# Altium footprint library 5013310807.PcbLib: 1 footprints
Each footprint in its own frame and in the unit in brackets; x right, y up, seen from the top. Pads: shape width x height; smd on the part's side, far side on the other; paste and mask are expansions set on the pad; w line width, h text height; cw(c..) or ccw(c..) is an arc to the next point about the centre after c.
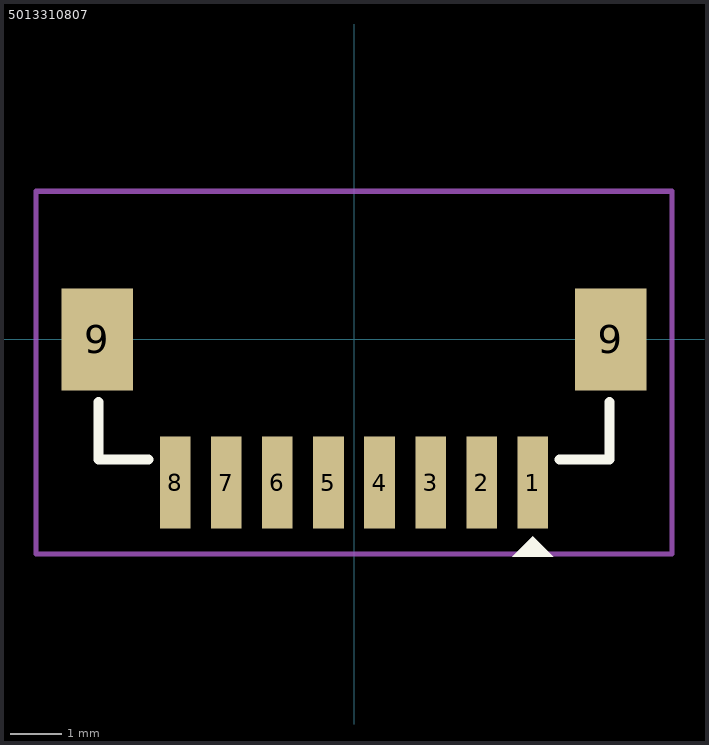
[diagram p0: the footprint, top view; thin cyan lines are the x and y axes]

## 5013310807 [mm]
pads (10):
  rect 0.6x1.8 smd: 1(3.5,-2.8) 2(2.5,-2.8) 3(1.5,-2.8) 4(0.5,-2.8) 5(-0.5,-2.8) 6(-1.5,-2.8) 7(-2.5,-2.8) 8(-3.5,-2.8)
  rect 1.4x2 smd: 9(-5.025,0) 9(5.025,0)
Top Overlay:
  region: 3.9,-4.25 3.1,-4.25 3.5,-3.85
  lines w0.2: -5,-1.225 -5,-2.35 -4.025,-2.35 ; 4.025,-2.35 5,-2.35 5,-1.225
Top Courtyard:
  lines w0.1: -6.225,-1 -6.225,-4.2 ; -6.225,-4.2 6.225,-4.2 6.225,2.9 -6.225,2.9 -6.225,-4.2
3D body "5013310807.stp": height 5.52, standoff -0.03, extent -5.115,-2.95 5.125,2.4